# Altium footprint library MMT_Resistors.PcbLib: 7 footprints
Each footprint in its own frame and in the unit in brackets; x right, y up, seen from the top. Pads: shape width x height; smd on the part's side, far side on the other; paste and mask are expansions set on the pad; w line width, h text height; cw(c..) or ccw(c..) is an arc to the next point about the centre after c.
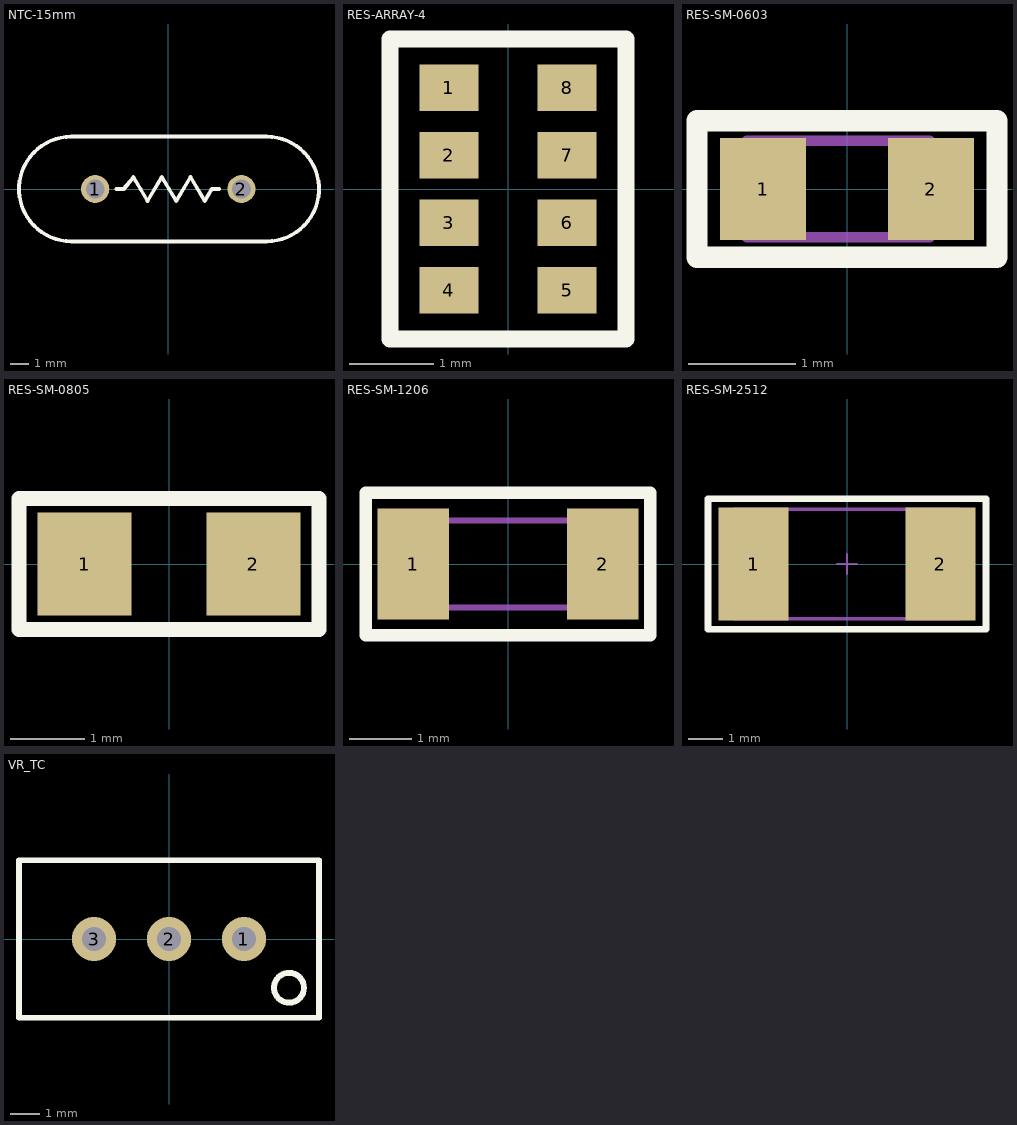
[diagram p0: the footprints below, top view; thin cyan lines are the x and y axes]

## NTC-15mm [mm]
pads (2):
  round 1.5 hole 1: 1(-3.9,0) 2(3.9,0)
Top Overlay:
  lines w0.2: -2.757,0 -2.376,0 -1.868,0.635 -1.487,0 -1.106,-0.635 -0.344,0.635 0.037,0 0.418,-0.635 1.18,0.635 1.942,-0.635 2.323,0 2.704,0 ; -5.17,-2.794 cw(c-5.17,0) -5.17,2.794 5.244,2.794 cw(c5.244,0) 5.244,-2.794 -5.17,-2.794
3D body "User Library-JNR15S060L.step": height 22.83, standoff -2.52, extent -7.963,-2.805 8.037,2.799

## RES-ARRAY-4 [mm]
pads (8):
  rect 0.7x0.55 smd: 1(-0.7,1.2) 2(-0.7,0.4) 3(-0.7,-0.4) 4(-0.7,-1.2) 5(0.7,-1.2) 6(0.7,-0.4) 7(0.7,0.4) 8(0.7,1.2)
Top Overlay:
  lines w0.2: -1.397,-1.778 -1.397,1.778 1.397,1.778 1.397,-1.778 -1.397,-1.778
3D body "User Library-Array-1206-4Way-Var1.STEP": height 0.5, standoff 0, extent -0.79,-1.594 0.81,1.606

## RES-SM-0603 [mm]
pads (2):
  rect 0.8x0.95 smd: 1(-0.782,0) 2(0.782,0)
Top Overlay:
  lines w0.2: -1.397,-0.635 -1.397,0.635 1.397,0.635 1.397,-0.635 -1.397,-0.635
Mechanical 13:
  lines w0.1: -0.932,-0.45 -0.932,0.45 0.768,0.45 0.768,-0.45 -0.932,-0.45
3D body "User Library-res0603.STEP": height 0.53, standoff 0, extent -1.292,-0.494 1.308,0.506

## RES-SM-0805 [mil]
pads (2):
  rect 50x55 smd: 1(-45,0) 2(45,0)
Top Overlay:
  lines w7.87: -80,-35 -80,35 80,35 80,-35 -80,-35
3D body "User Library-CR2012-0805.STEP": height 24.23, standoff 0.6, extent -39.36,-24.6 39.38,24.61

## RES-SM-1206 [mil]
pads (2):
  rect 45x70 smd: 1(-60,0) 2(60,0)
Top Overlay:
  lines w7.87: -90,-45 90,-45 90,45 -90,45 -90,-45
Mechanical 13:
  lines w3.94: -60,-27.56 -70.87,-27.56 -70.87,27.56 -60,27.56 ; -60,-27.56 60,-27.56 ; -60,-27.56 -60,27.56 ; -60,27.56 60,27.56 ; 60,-27.56 70.87,-27.56 70.87,27.56 60,27.56 ; 60,-27.56 60,27.56
3D body: height 29.53, standoff 0, extent -70.85,-27.54 -60.02,27.54
3D body: height 29.53, standoff 0, extent -59.98,-27.54 59.98,27.54
3D body: height 29.53, standoff 0, extent 60.02,-27.54 70.85,27.54

## RES-SM-2512 [mil]
pads (2):
  rect 80x130 smd: 1(-107.5,0) 2(107.5,0)
Top Overlay:
  lines w7.87: -160,-75 160,-75 160,75 -160,75 -160,-75
Mechanical 13:
  lines w3.94: -118.11,-62.99 -118.11,62.99 ; -118.11,-62.99 118.11,-62.99 ; -118.11,-62.99 -129.92,-62.99 -129.92,62.99 -118.11,62.99 ; -118.11,62.99 118.11,62.99 ; 118.11,-62.99 118.11,62.99 ; 118.11,-62.99 129.92,-62.99 129.92,62.99 118.11,62.99
Mechanical 15:
  lines w1.97: -11.81,0 11.81,0 ; 0,-11.81 0,11.81
  lines w3.94: -160,-75 -160,75 160,75 160,-75 -160,-75
3D body: height 23.62, standoff 0, extent 118.13,-62.97 129.9,62.97
3D body: height 23.62, standoff 0, extent -129.9,-62.97 -118.13,62.97
3D body: height 23.62, standoff 0, extent -118.11,-64.96 118.11,64.96

## VR_TC [mm]
pads (3):
  round 1.5 / inner round 1.2 / far side round 1.5 hole 0.8: 1(2.54,0) 2(0,0) 3(-2.54,0)
Top Overlay:
  circle w0.2: c4.064,-1.651 r0.506
  lines w0.2: -5.08,-2.667 -5.08,2.667 5.08,2.667 5.08,-2.667 -5.08,-2.667
3D body "User Library-67W.step": height 11.67, standoff -4.6, extent -4.9,-2.475 4.9,2.475